# Altium schematic symbol library SG73P2ATTD102J.SchLib: 1 symbol
Pins are listed as number, name and electrical type; pins without a type are passive.

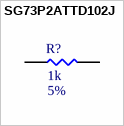
[diagram p0: symbol SG73P2ATTD102J]

## SG73P2ATTD102J
designator R?  Resistance: 1k  Tolerance: 5%  (hidden comment: SG73P2ATTD102J)
RES 1K OHM 5% 1/4W 0805; MFR: KOA Speer Electronics, Inc.; PN: SG73P2ATTD102J; Footprint: RES0805; Package: 0805; ComponentLink1Description: Datasheet; Power Rating: 1/4W; Supplier 1: Mouser; Supplier Part Number 1: 660-SG73P2ATTD102J
footprint RES0805 (Generic 0805 PCB Footprint)
pins: 1, 2